# Altium footprint library relay.PCBLIB: 291 footprints (part 17 of 19)
Each footprint in its own frame and in the unit in brackets; x right, y up, seen from the top. Pads: shape width x height; smd on the part's side, far side on the other; paste and mask are expansions set on the pad; w line width, h text height; cw(c..) or ccw(c..) is an arc to the next point about the centre after c.
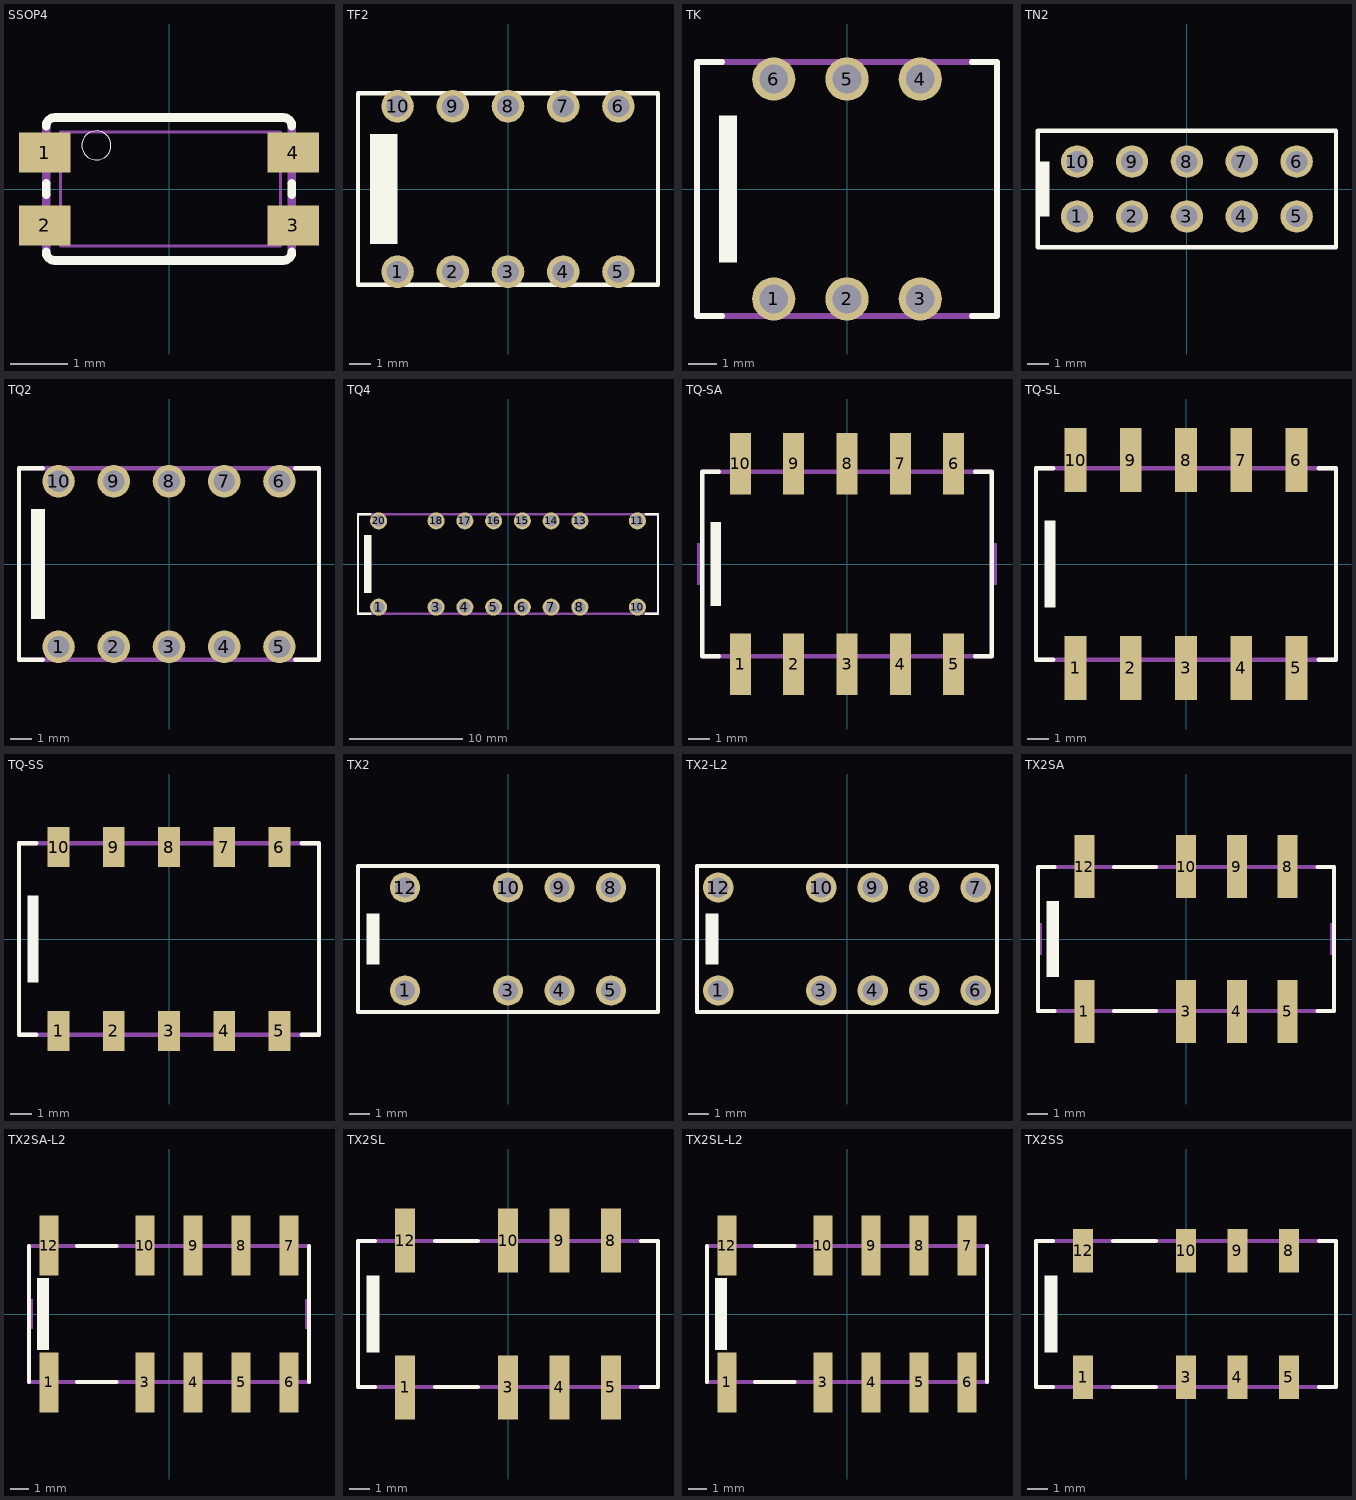
[diagram p16: the footprints below, top view; thin cyan lines are the x and y axes]

## SSOP4 [mm]
pads (4):
  rect 0.9x0.7 smd: 1(-2.175,0.635) 2(-2.175,-0.635) 3(2.175,-0.635) 4(2.175,0.635)
Top Overlay:
  circle w0: c-1.27,0.762 r0.254
  lines w0.152: -2.15,-1.1 ccw(c-2,-1.1) -2,-1.25 2,-1.25 ccw(c2,-1.1) 2.15,-1.1 ; -2.15,-0.1 -2.15,0.1 ; -2.15,1.1 cw(c-2,1.1) -2,1.25 2,1.25 cw(c2,1.1) 2.15,1.1 ; 2.15,-0.1 2.15,0.1
Mechanical 16:
  lines w0.051: -1.9,-1 1.95,-1 1.95,1 -1.9,1 -1.9,-1
  lines w0.152: -2.15,-1.1 -2.15,-0.1 ; -2.15,0.1 -2.15,1.1 ; 2.15,-1.1 2.15,-0.1 ; 2.15,0.1 2.15,1.1

## TF2 [mm]
pads (10):
  round 1.5 hole 1: 1(-5.08,-3.81) 2(-2.54,-3.81) 3(0,-3.81) 4(2.54,-3.81) 5(5.08,-3.81) 6(5.08,3.81) 7(2.54,3.81) 8(0,3.81) 9(-2.54,3.81) 10(-5.08,3.81)
Top Overlay:
  rectangle: -6.35,-2.54 -5.08,2.54
  lines w0.203: -6.9,-4.4 6.9,-4.4 6.9,4.4 -6.9,4.4 -6.9,-4.4

## TK [mm]
pads (6):
  round 1.5 hole 1: 1(-2.54,-3.81) 2(0,-3.81) 3(2.54,-3.81) 4(2.54,3.81) 5(0,3.81) 6(-2.54,3.81)
Top Overlay:
  rectangle: -4.445,-2.54 -3.81,2.54
  lines w0.203: -4.325,-4.4 -5.2,-4.4 -5.2,4.4 -4.325,4.4 ; 4.325,-4.4 5.2,-4.4 5.2,4.4 4.325,4.4
Mechanical 16:
  lines w0.203: -5.2,-4.4 5.2,-4.4 ; -5.2,4.4 5.2,4.4

## TN2 [mm]
pads (10):
  round 1.5 hole 1: 1(-5.08,-1.27) 2(-2.54,-1.27) 3(0,-1.27) 4(2.54,-1.27) 5(5.08,-1.27) 6(5.08,1.27) 7(2.54,1.27) 8(0,1.27) 9(-2.54,1.27) 10(-5.08,1.27)
Top Overlay:
  rectangle: -6.985,-1.27 -6.35,1.27
  lines w0.203: -6.9,-2.7 6.9,-2.7 6.9,2.7 -6.9,2.7 -6.9,-2.7

## TQ2 [mm]
pads (10):
  round 1.5 hole 1: 1(-5.08,-3.81) 2(-2.54,-3.81) 3(0,-3.81) 4(2.54,-3.81) 5(5.08,-3.81) 6(5.08,3.81) 7(2.54,3.81) 8(0,3.81) 9(-2.54,3.81) 10(-5.08,3.81)
Top Overlay:
  rectangle: -6.35,-2.54 -5.715,2.54
  lines w0.203: -5.8,-4.4 -6.9,-4.4 -6.9,4.4 -5.8,4.4 ; 5.8,-4.4 6.9,-4.4 6.9,4.4 5.8,4.4
Mechanical 16:
  lines w0.203: -6.9,-4.4 6.9,-4.4 ; -6.9,4.4 6.9,4.4

## TQ4 [mm]
pads (16):
  round 1.5 hole 1: 1(-11.43,-3.81) 3(-6.35,-3.81) 4(-3.81,-3.81) 5(-1.27,-3.81) 6(1.27,-3.81) 7(3.81,-3.81) 8(6.35,-3.81) 10(11.43,-3.81) 11(11.43,3.81) 13(6.35,3.81) 14(3.81,3.81) 15(1.27,3.81) 16(-1.27,3.81) 17(-3.81,3.81) 18(-6.35,3.81) 20(-11.43,3.81)
Top Overlay:
  rectangle: -12.7,-2.54 -12.065,2.54
  lines w0.203: -12.15,-4.4 -13.25,-4.4 -13.25,4.4 -12.15,4.4 ; 12.15,-4.4 13.25,-4.4 13.25,4.4 12.15,4.4
Mechanical 16:
  lines w0.203: -13.25,-4.4 13.25,-4.4 ; -13.25,4.4 13.25,4.4

## TQ-SA [mm]
pads (10):
  rect 1x2.94 smd: 1(-5.08,-4.78) 2(-2.54,-4.78) 3(0,-4.78) 4(2.54,-4.78) 5(5.08,-4.78) 6(5.08,4.78) 7(2.54,4.78) 8(0,4.78) 9(-2.54,4.78) 10(-5.08,4.78)
Top Overlay:
  rectangle: -6.5,-2 -6,2
  lines w0.203: -6.1,-4.4 -6.9,-4.4 -6.9,4.4 -6.1,4.4 ; 6.1,-4.4 6.9,-4.4 6.9,4.4 6.1,4.4
Mechanical 6:
  rectangle: -7.15,-1 -6.85,1
  rectangle: 6.85,-1 7.15,1
Mechanical 16:
  lines w0.203: -6.9,-4.4 6.9,-4.4 ; -6.9,4.4 6.9,4.4

## TQ-SL [mm]
pads (10):
  rect 1x2.94 smd: 1(-5.08,-4.78) 2(-2.54,-4.78) 3(0,-4.78) 4(2.54,-4.78) 5(5.08,-4.78) 6(5.08,4.78) 7(2.54,4.78) 8(0,4.78) 9(-2.54,4.78) 10(-5.08,4.78)
Top Overlay:
  rectangle: -6.5,-2 -6,2
  lines w0.203: -6.1,-4.4 -6.9,-4.4 -6.9,4.4 -6.1,4.4 ; 6.1,-4.4 6.9,-4.4 6.9,4.4 6.1,4.4
Mechanical 16:
  lines w0.203: -6.9,-4.4 6.9,-4.4 ; -6.9,4.4 6.9,4.4

## TQ-SS [mm]
pads (10):
  rect 1x1.84 smd: 1(-5.08,-4.23) 2(-2.54,-4.23) 3(0,-4.23) 4(2.54,-4.23) 5(5.08,-4.23) 6(5.08,4.23) 7(2.54,4.23) 8(0,4.23) 9(-2.54,4.23) 10(-5.08,4.23)
Top Overlay:
  rectangle: -6.5,-2 -6,2
  lines w0.203: -6.1,-4.4 -6.9,-4.4 -6.9,4.4 -6.1,4.4 ; 6.1,-4.4 6.9,-4.4 6.9,4.4 6.1,4.4
Mechanical 16:
  lines w0.203: -6.9,-4.4 6.9,-4.4 ; -6.9,4.4 6.9,4.4

## TX2 [mm]
pads (8):
  round 1.5 hole 1: 1(-5.08,-2.54) 3(0,-2.54) 4(2.54,-2.54) 5(5.08,-2.54) 8(5.08,2.54) 9(2.54,2.54) 10(0,2.54) 12(-5.08,2.54)
Top Overlay:
  rectangle: -6.985,-1.27 -6.35,1.27
  lines w0.203: -7.4,-3.6 7.4,-3.6 7.4,3.6 -7.4,3.6 -7.4,-3.6

## TX2-L2 [mm]
pads (10):
  round 1.5 hole 1: 1(-6.35,-2.54) 3(-1.27,-2.54) 4(1.27,-2.54) 5(3.81,-2.54) 6(6.35,-2.54) 7(6.35,2.54) 8(3.81,2.54) 9(1.27,2.54) 10(-1.27,2.54) 12(-6.35,2.54)
Top Overlay:
  rectangle: -6.985,-1.27 -6.35,1.27
  lines w0.203: -7.4,-3.6 7.4,-3.6 7.4,3.6 -7.4,3.6 -7.4,-3.6

## TX2SA [mm]
pads (8):
  rect 1x3.16 smd: 1(-5.08,-3.62) 3(0,-3.62) 4(2.54,-3.62) 5(5.08,-3.62) 8(5.08,3.62) 9(2.54,3.62) 10(0,3.62) 12(-5.08,3.62)
Top Overlay:
  rectangle: -6.985,-1.905 -6.35,1.905
  lines w0.203: -6.57,-3.6 -7.4,-3.6 -7.4,3.6 -6.57,3.6 ; -3.59,-3.6 -1.49,-3.6 ; -3.59,3.6 -1.49,3.6 ; 6.57,-3.6 7.4,-3.6 7.4,3.6 6.57,3.6
Mechanical 6:
  rectangle: -7.5,-0.8 -7.2,0.8
  region: 7.5,0.8 7.2,0.8 7.2,-0.8 7.5,-0.8
Mechanical 16:
  lines w0.203: -7.4,-3.6 7.4,-3.6 ; -7.4,3.6 7.4,3.6

## TX2SA-L2 [mm]
pads (10):
  rect 1x3.16 smd: 1(-6.35,-3.62) 3(-1.27,-3.62) 4(1.27,-3.62) 5(3.81,-3.62) 6(6.35,-3.62) 7(6.35,3.62) 8(3.81,3.62) 9(1.27,3.62) 10(-1.27,3.62) 12(-6.35,3.62)
Top Overlay:
  rectangle: -6.985,-1.905 -6.35,1.905
  lines w0.203: -7.4,-3.6 -7.4,3.6 ; -4.86,-3.6 -2.76,-3.6 ; -4.86,3.6 -2.76,3.6 ; 7.4,-3.6 7.4,3.6
Mechanical 6:
  rectangle: -7.5,-0.8 -7.2,0.8
  region: 7.5,0.8 7.2,0.8 7.2,-0.8 7.5,-0.8
Mechanical 16:
  lines w0.203: -7.4,-3.6 7.4,-3.6 ; -7.4,3.6 7.4,3.6

## TX2SL [mm]
pads (8):
  rect 1x3.16 smd: 1(-5.08,-3.62) 3(0,-3.62) 4(2.54,-3.62) 5(5.08,-3.62) 8(5.08,3.62) 9(2.54,3.62) 10(0,3.62) 12(-5.08,3.62)
Top Overlay:
  rectangle: -6.985,-1.905 -6.35,1.905
  lines w0.203: -6.57,-3.6 -7.4,-3.6 -7.4,3.6 -6.57,3.6 ; -3.59,-3.6 -1.49,-3.6 ; -3.59,3.6 -1.49,3.6 ; 6.57,-3.6 7.4,-3.6 7.4,3.6 6.57,3.6
Mechanical 16:
  lines w0.203: -7.4,-3.6 7.4,-3.6 ; -7.4,3.6 7.4,3.6

## TX2SL-L2 [mm]
pads (10):
  rect 1x3.16 smd: 1(-6.35,-3.62) 3(-1.27,-3.62) 4(1.27,-3.62) 5(3.81,-3.62) 6(6.35,-3.62) 7(6.35,3.62) 8(3.81,3.62) 9(1.27,3.62) 10(-1.27,3.62) 12(-6.35,3.62)
Top Overlay:
  rectangle: -6.985,-1.905 -6.35,1.905
  lines w0.203: -7.4,-3.6 -7.4,3.6 ; -4.86,-3.6 -2.76,-3.6 ; -4.86,3.6 -2.76,3.6 ; 7.4,-3.6 7.4,3.6
Mechanical 16:
  lines w0.203: -7.4,-3.6 7.4,-3.6 ; -7.4,3.6 7.4,3.6

## TX2SS [mm]
pads (8):
  rect 1x2.16 smd: 1(-5.08,-3.12) 3(0,-3.12) 4(2.54,-3.12) 5(5.08,-3.12) 8(5.08,3.12) 9(2.54,3.12) 10(0,3.12) 12(-5.08,3.12)
Top Overlay:
  rectangle: -6.985,-1.905 -6.35,1.905
  lines w0.203: -6.57,-3.6 -7.4,-3.6 -7.4,3.6 -6.57,3.6 ; -3.59,-3.6 -1.49,-3.6 ; -3.59,3.6 -1.49,3.6 ; 6.57,-3.6 7.4,-3.6 7.4,3.6 6.57,3.6
Mechanical 16:
  lines w0.203: -7.4,-3.6 7.4,-3.6 ; -7.4,3.6 7.4,3.6